# Altium schematic symbol library czc.SchLib: 152 symbols (part 2 of 2)
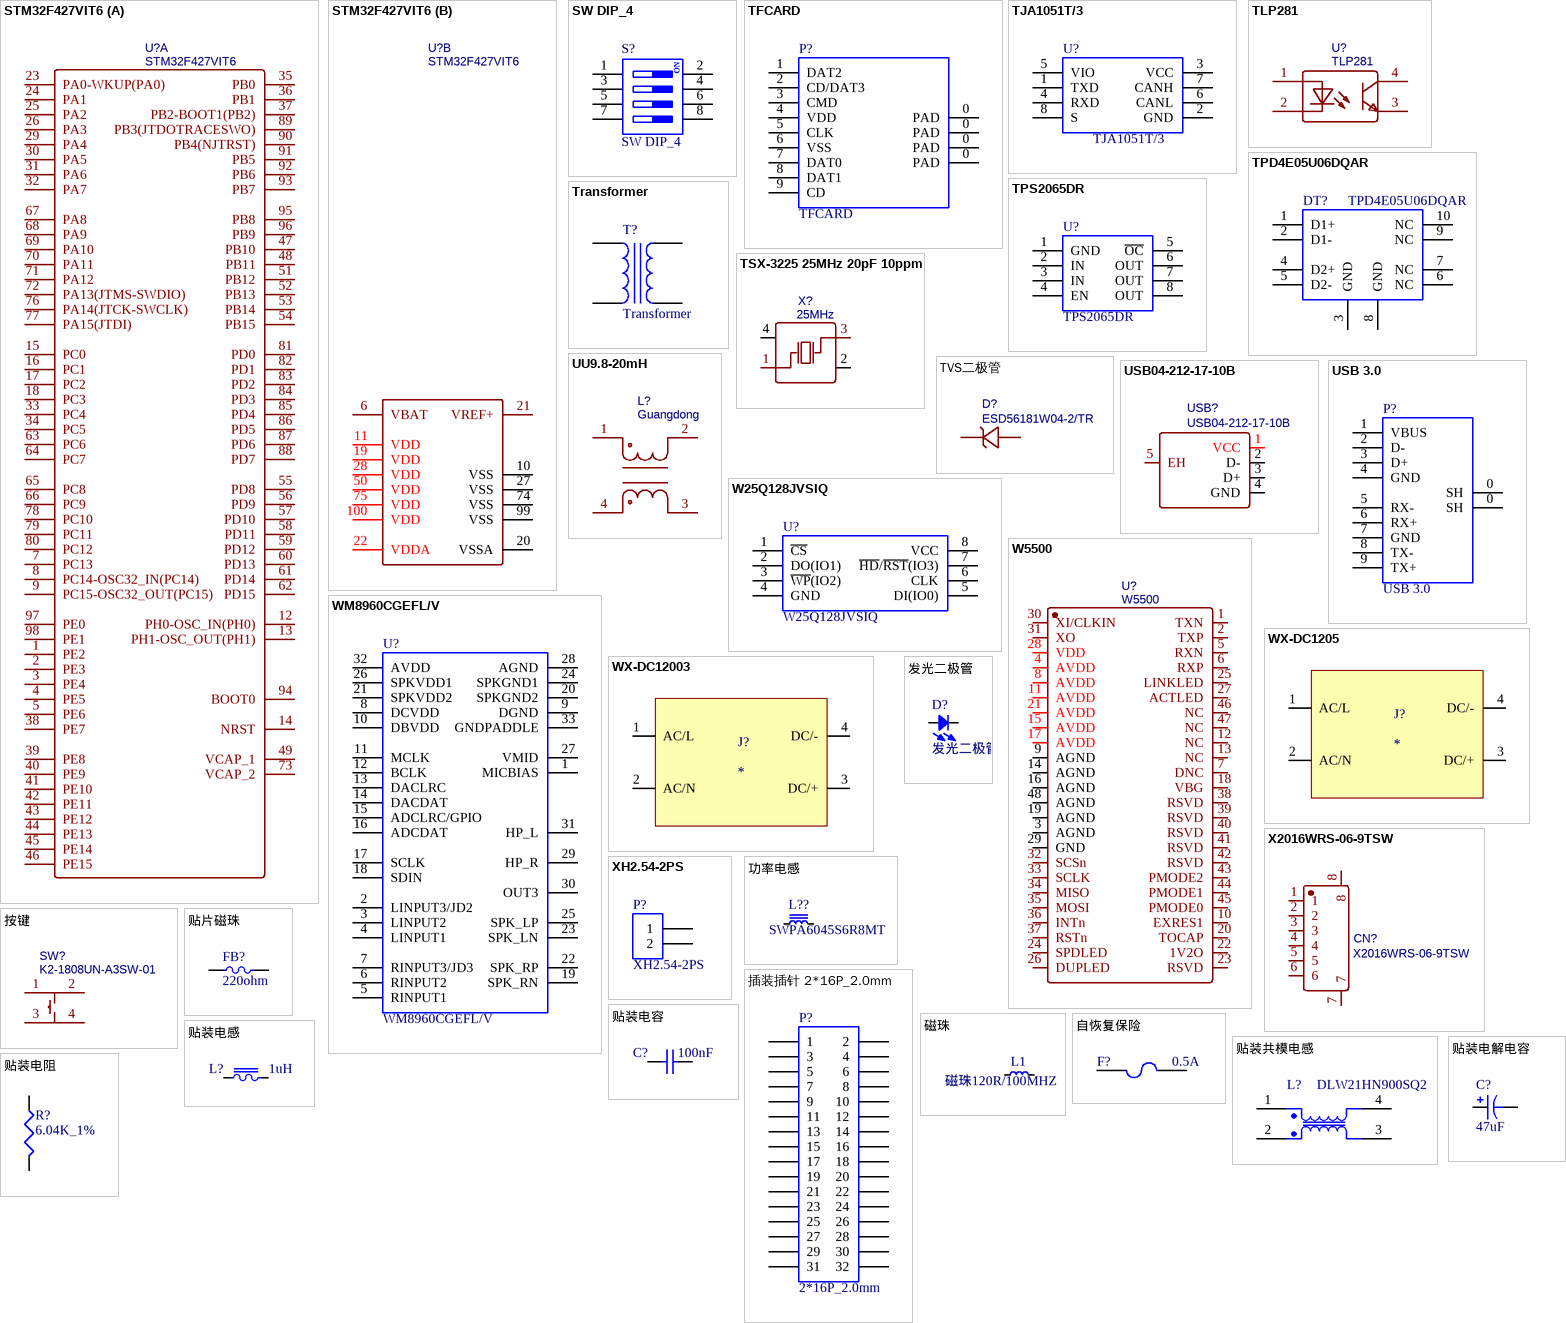
[diagram p6: symbols STM32F427VIT6 to 贴装电阻]

## 磁珠
designator L1, comment 磁珠120R/100MHZ
磁珠
footprint 0603L
footprint 0805L
footprint 1206L
footprint 1812L
pins: 1, 2

## 自恢复保险
designator F?, comment 0.5A
存货编码: 1110305015; 序号: 3451; 存货名称: 自恢复保险; 规格型号: 1206,0.5A; 主计量单位名称: 个; 安全库存: 3026; 旧编码: 010803027; 旧规格型号: 1206，0.5A; Published: 8-Jun-2000; LatestRevisionDate: 17-Jul-2002; LatestRevisionNote: Re-released for DXP Platform.; PackageReference: PIN-W2/E2.8; Publisher: Altium Limited; PackageDescription: Thru-Hole; 2 Leads; Value: 0.5A
simulation model FUSE (Spice Subcircuit)
footprint 1206F
pins: 1, 2

## 贴片磁珠
designator FB?, comment 220ohm
存货编码: 1110304003; 序号: 968; 存货名称: 磁珠; 规格型号: 0805,220 Ohm@100MHz,2A,BLM21PG221SN1; 描述栏信息: 村田; 主计量单位名称: 只; 安全库存: 3808; 旧编码: 010301032; 旧规格型号: 0805 BLM21PG221SN1 村田; VALUE: 220ohm
footprint 0805L
pins: 1, 2

## 贴装共模电感
designator L?, comment DLW21HN900SQ2
存货编码: 1110303003; 序号: 1015; 存货名称: 贴装共模电感; 规格型号: 2012(0805),90 Ohm@100MHz,330mA,LW21HN900SQ2; 安全库存: 2600; 旧编码: 010301079; 旧规格型号: 0805 DLW21HN900SQ2; Value: DLW21HN900SQ2
footprint L_CHK_2012
pins: 1, 2, 3, 4 43

## 贴装电容
designator C?, comment 100nF
存货编码: 1110202001; 序号: 570; 存货名称: 贴装叠层陶瓷电容; 规格型号: 0402,100nF,16V,±10％,X7R; 主计量单位名称: 个; 安全库存: 2580445; 旧编码: 010201001; 旧规格型号: 0402 100nF 16V ±10％ X7R; Published: 8-Jun-2000; LatestRevisionDate: 17-Jul-2002; LatestRevisionNote: Re-released for DXP Platform.; PackageReference: RAD-0.3; Publisher: Altium Limited; PackageDescription: Radial Cap, Thru-Hole; 2 Leads; 0.3 in Pin Spacing; Value: 100nF
simulation model CAP (Capacitor)
signal-integrity model Cap
footprint 0402C
pins: 1, 2

## 贴装电感
designator L?, comment 1uH
存货编码: 1110301018; 序号: 990; 存货名称: 功率电感; 规格型号: 1uH,4*4mm,平行焊盘全屏蔽,CDRH3D18NP-1R0NC; 安全库存: 3154; 旧编码: 010301054; 旧规格型号: 1uH CDRH3D18NP-1R0NC 4*4mm 全屏蔽 平行焊盘 （所写型号为对角焊盘实物为平行焊盘）; Published: 24-Mar-1999; LatestRevisionDate: 17-Jul-2002; LatestRevisionNote: Re-released for DXP Platform.; PackageReference: AXIAL-0.9; Publisher: Altium Limited; PackageDescription: Axial Device, Thru-Hole; 2 Leads; 0.9 in Pin Spacing; Value: 1uH
simulation model INDUCTOR (Inductor)
signal-integrity model Inductor Iron
footprint L_4*4
pins: 1, 2

## 贴装电解电容
designator C?, comment 47uF
存货编码: 1110208006; 序号: 810; 存货名称: 贴装钽电解电容; 规格型号: A型,47uF,10V,±20％; 安全库存: 0; 旧编码: 010211006; 旧规格型号: A型 47uF 10V ±20％; Published: 8-Jun-2000; LatestRevisionDate: 17-Jul-2002; LatestRevisionNote: Re-released for DXP Platform.; PackageReference: RB7.6-15; Publisher: Altium Limited; PackageDescription: Polarized Capacitor (Radial); 2 Leads; Value: 47uF
simulation model CAP (Capacitor)
signal-integrity model Cap Pol
footprint TC3216A
pins: 1, 2

## 贴装电阻
designator R?, comment 6.04K_1%
存货编码: 1110102078; 序号: 112; 存货名称: 贴装电阻; 规格型号: 0402,6.04K,±1％; 主计量单位名称: 只; 安全库存: 32569; 旧编码: 010101103; 旧规格型号: 0402-6.04K ±1％; Value: 6.04K_1%
simulation model RESISTOR (Resistor)
signal-integrity model Res
footprint 0402R
pins: 1, 2